# EAGLE library part MEGA8L-DEV (library MEGA8L)
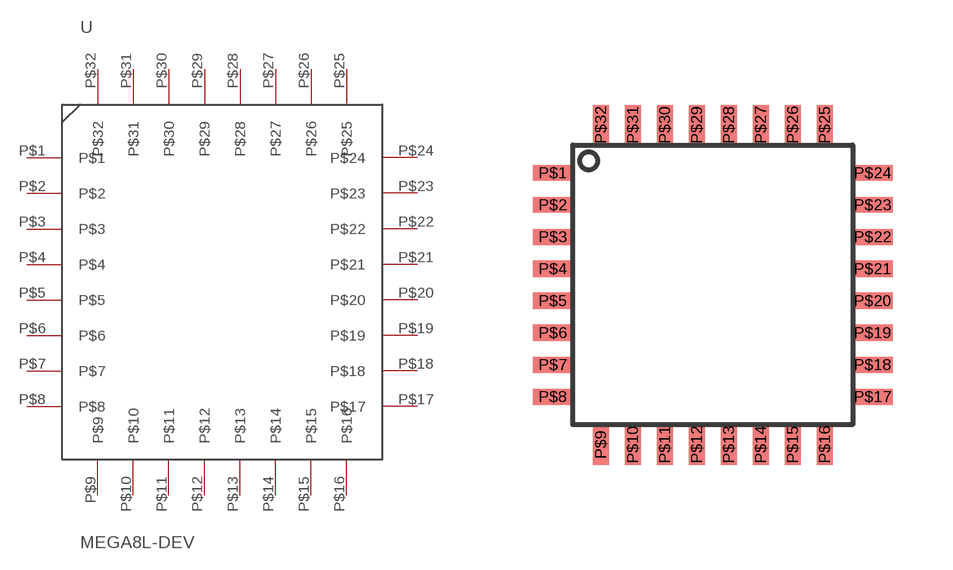
[diagram p0: symbol with the pads of TQFP-MEGA8L; footprint TQFP-MEGA8L]

Designator prefix -

## MEGA8L-DEV  [TQFP-MEGA8L]
P$1  P$1
P$2  P$2
P$3  P$3
P$4  P$4
P$5  P$5
P$6  P$6
P$7  P$7
P$8  P$8
P$9  P$9
P$10  P$10
P$11  P$11
P$12  P$12
P$13  P$13
P$14  P$14
P$15  P$15
P$16  P$16
P$17  P$17
P$18  P$18
P$19  P$19
P$20  P$20
P$21  P$21
P$22  P$22
P$23  P$23
P$24  P$24
P$25  P$25
P$26  P$26
P$27  P$27
P$28  P$28
P$29  P$29
P$30  P$30
P$31  P$31
P$32  P$32

## Footprint TQFP-MEGA8L (pad centres in mm)
smd 1 x 0.4: P$1 -4.5,9.4; P$2 -4.5,8.6; P$3 -4.5,7.8; P$4 -4.5,7; P$5 -4.5,6.2; P$6 -4.5,5.4; P$7 -4.5,4.6; P$8 -4.5,3.8; P$17 3.5,3.8; P$18 3.5,4.6; P$19 3.5,5.4; P$20 3.5,6.2; P$21 3.5,7; P$22 3.5,7.8; P$23 3.5,8.6; P$24 3.5,9.4
smd 0.4 x 1: P$9 -3.3,2.6; P$10 -2.5,2.6; P$11 -1.7,2.6; P$12 -0.9,2.6; P$13 -0.1,2.6; P$14 0.7,2.6; P$15 1.5,2.6; P$16 2.3,2.6; P$25 2.3,10.6; P$26 1.5,10.6; P$27 0.7,10.6; P$28 -0.1,10.6; P$29 -0.9,10.6; P$30 -1.7,10.6; P$31 -2.5,10.6; P$32 -3.3,10.6